# Altium footprint library Capacitor Electrolytic Snap-In.PcbLib: 32 footprints (part 2 of 2)
Each footprint in its own frame and in the unit in brackets; x right, y up, seen from the top. Pads: shape width x height; smd on the part's side, far side on the other; paste and mask are expansions set on the pad; w line width, h text height; cw(c..) or ccw(c..) is an arc to the next point about the centre after c.
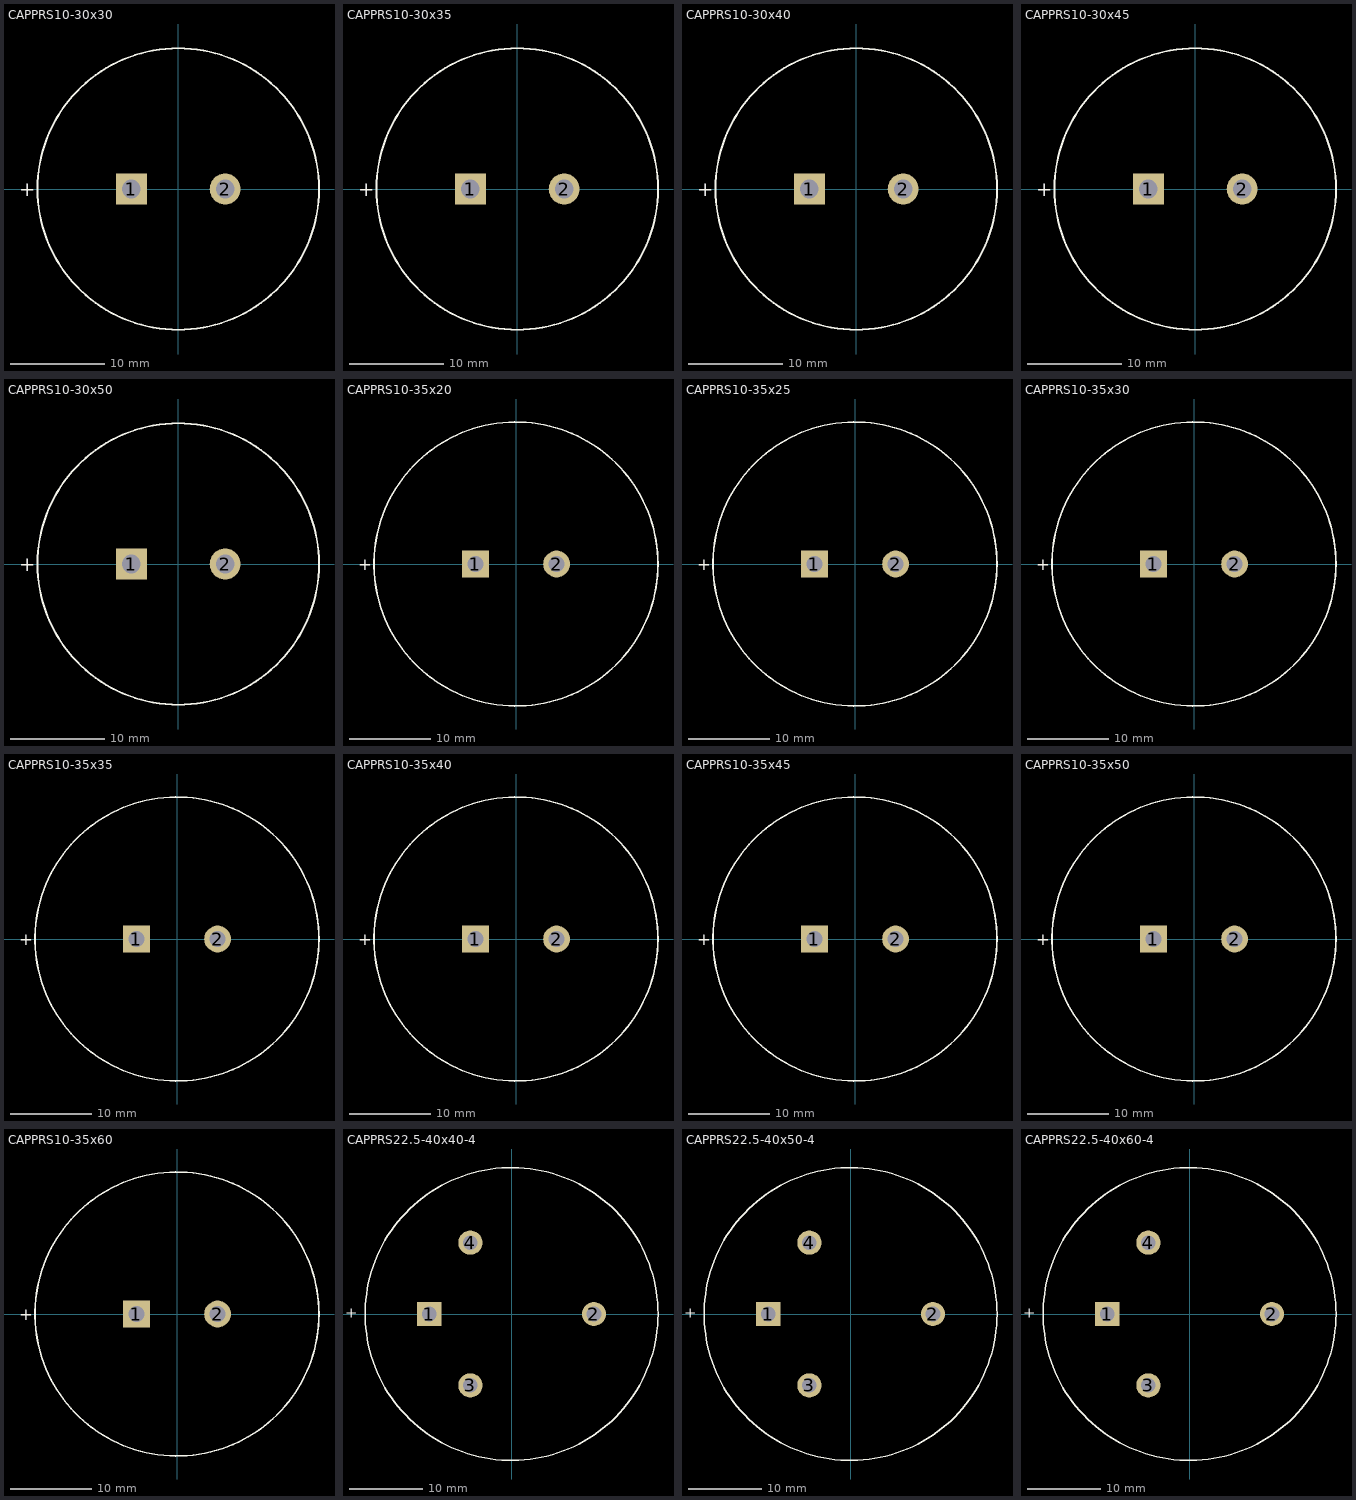
[diagram p1: the footprints below, top view; thin cyan lines are the x and y axes]

## CAPPRS10-30x30 [mm] "Capacitor, Electrolytic, Radial, Snap-In Pins; Body 30 x 30 mm (Dia.xH typ); Pin Spacing 10 mm (typ)"
height 32
pads (2):
  rect 3.3x3.3 hole 2: 1(-5,0)
  round 3.3 hole 2: 2(5,0)
Top Overlay:
  circle w0.2: c0,0 r15
  text "+" at -16.975,-0.75 h1.5

## CAPPRS10-30x35 [mm] "Capacitor, Electrolytic, Radial, Snap-In Pins; Body 30 x 35 mm (Dia.xH typ); Pin Spacing 10 mm (typ)"
height 37
pads (2):
  rect 3.3x3.3 hole 2: 1(-5,0)
  round 3.3 hole 2: 2(5,0)
Top Overlay:
  circle w0.2: c0,0 r15
  text "+" at -16.975,-0.75 h1.5

## CAPPRS10-30x40 [mm] "Capacitor, Electrolytic, Radial, Snap-In Pins; Body 30 x 40 mm (Dia.xH typ); Pin Spacing 10 mm (typ)"
height 42
pads (2):
  rect 3.3x3.3 hole 2: 1(-5,0)
  round 3.3 hole 2: 2(5,0)
Top Overlay:
  circle w0.2: c0,0 r15
  text "+" at -16.975,-0.75 h1.5

## CAPPRS10-30x45 [mm] "Capacitor, Electrolytic, Radial, Snap-In Pins; Body 30 x 45 mm (Dia.xH typ); Pin Spacing 10 mm (typ)"
height 47
pads (2):
  rect 3.3x3.3 hole 2: 1(-5,0)
  round 3.3 hole 2: 2(5,0)
Top Overlay:
  circle w0.2: c0,0 r15
  text "+" at -16.975,-0.75 h1.5

## CAPPRS10-30x50 [mm] "Capacitor, Electrolytic, Radial, Snap-In Pins; Body 30 x 50 mm (Dia.xH typ); Pin Spacing 10 mm (typ)"
height 52
pads (2):
  rect 3.3x3.3 hole 2: 1(-5,0)
  round 3.3 hole 2: 2(5,0)
Top Overlay:
  circle w0.2: c0,0 r15
  text "+" at -16.975,-0.75 h1.5

## CAPPRS10-35x20 [mm] "Capacitor, Electrolytic, Radial, Snap-In Pins; Body 35 x 20 mm (Dia.xH typ); Pin Spacing 10 mm (typ)"
height 22
pads (2):
  rect 3.3x3.3 hole 2: 1(-5,0)
  round 3.3 hole 2: 2(5,0)
Top Overlay:
  circle w0.2: c0,0 r17.5
  text "+" at -19.475,-0.75 h1.5

## CAPPRS10-35x25 [mm] "Capacitor, Electrolytic, Radial, Snap-In Pins; Body 35 x 25 mm (Dia.xH typ); Pin Spacing 10 mm (typ)"
height 27
pads (2):
  rect 3.3x3.3 hole 2: 1(-5,0)
  round 3.3 hole 2: 2(5,0)
Top Overlay:
  circle w0.2: c0,0 r17.5
  text "+" at -19.475,-0.75 h1.5

## CAPPRS10-35x30 [mm] "Capacitor, Electrolytic, Radial, Snap-In Pins; Body 35 x 30 mm (Dia.xH typ); Pin Spacing 10 mm (typ)"
height 32
pads (2):
  rect 3.3x3.3 hole 2: 1(-5,0)
  round 3.3 hole 2: 2(5,0)
Top Overlay:
  circle w0.2: c0,0 r17.5
  text "+" at -19.475,-0.75 h1.5

## CAPPRS10-35x35 [mm] "Capacitor, Electrolytic, Radial, Snap-In Pins; Body 35 x 35 mm (Dia.xH typ); Pin Spacing 10 mm (typ)"
height 37
pads (2):
  rect 3.3x3.3 hole 2: 1(-5,0)
  round 3.3 hole 2: 2(5,0)
Top Overlay:
  circle w0.2: c0,0 r17.5
  text "+" at -19.475,-0.75 h1.5

## CAPPRS10-35x40 [mm] "Capacitor, Electrolytic, Radial, Snap-In Pins; Body 35 x 40 mm (Dia.xH typ); Pin Spacing 10 mm (typ)"
height 42
pads (2):
  rect 3.3x3.3 hole 2: 1(-5,0)
  round 3.3 hole 2: 2(5,0)
Top Overlay:
  circle w0.2: c0,0 r17.5
  text "+" at -19.475,-0.75 h1.5

## CAPPRS10-35x45 [mm] "Capacitor, Electrolytic, Radial, Snap-In Pins; Body 35 x 45 mm (Dia.xH typ); Pin Spacing 10 mm (typ)"
height 47
pads (2):
  rect 3.3x3.3 hole 2: 1(-5,0)
  round 3.3 hole 2: 2(5,0)
Top Overlay:
  circle w0.2: c0,0 r17.5
  text "+" at -19.475,-0.75 h1.5

## CAPPRS10-35x50 [mm] "Capacitor, Electrolytic, Radial, Snap-In Pins; Body 35 x 50 mm (Dia.xH typ); Pin Spacing 10 mm (typ)"
height 52
pads (2):
  rect 3.3x3.3 hole 2: 1(-5,0)
  round 3.3 hole 2: 2(5,0)
Top Overlay:
  circle w0.2: c0,0 r17.5
  text "+" at -19.475,-0.75 h1.5

## CAPPRS10-35x60 [mm] "Capacitor, Electrolytic, Radial, Snap-In Pins; Body 35 x 60 mm (Dia.xH typ); Pin Spacing 10 mm (typ)"
height 62
pads (2):
  rect 3.3x3.3 hole 2: 1(-5,0)
  round 3.3 hole 2: 2(5,0)
Top Overlay:
  circle w0.2: c0,0 r17.5
  text "+" at -19.475,-0.75 h1.5

## CAPPRS22.5-40x40-4 [mm] "Capacitor, Electrolytic, Radial, Snap-In Pins; Body 40 x 40 mm (Dia.xH typ); Pin Spacing 22.5 mm (typ)"
height 42
pads (4):
  rect 3.3x3.3 hole 2: 1(-11.25,0)
  round 3.3 hole 2: 2(11.25,0) 3(-5.625,-9.743) 4(-5.625,9.743)
Top Overlay:
  circle w0.2: c0,0 r20
  text "+" at -20.975,0.75 h1.5

## CAPPRS22.5-40x50-4 [mm] "Capacitor, Electrolytic, Radial, Snap-In Pins; Body 40 x 50 mm (Dia.xH typ); Pin Spacing 22.5 mm (typ)"
height 52
pads (4):
  rect 3.3x3.3 hole 2: 1(-11.25,0)
  round 3.3 hole 2: 2(11.25,0) 3(-5.625,-9.743) 4(-5.625,9.743)
Top Overlay:
  circle w0.2: c0,0 r20
  text "+" at -20.975,0.75 h1.5

## CAPPRS22.5-40x60-4 [mm] "Capacitor, Electrolytic, Radial, Snap-In Pins; Body 40 x 60 mm (Dia.xH typ); Pin Spacing 22.5 mm (typ)"
height 62
pads (4):
  rect 3.3x3.3 hole 2: 1(-11.25,0)
  round 3.3 hole 2: 2(11.25,0) 3(-5.625,-9.743) 4(-5.625,9.743)
Top Overlay:
  circle w0.2: c0,0 r20
  text "+" at -20.975,0.75 h1.5